# EAGLE library part PINHD-2X6_RECEPTACLE (library dadamachines)
PIN HEADER
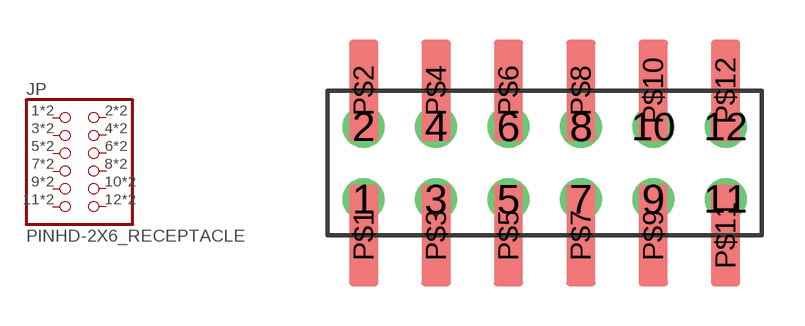
[diagram p24: symbol with the pads of 2X06_RECEPTACLE; footprint 2X06_RECEPTACLE]

Designator prefix JP

## PINHD-2X6_RECEPTACLE  [2X06_RECEPTACLE]
1  1  pas
2  2  pas
3  3  pas
4  4  pas
5  5  pas
6  6  pas
7  7  pas
8  8  pas
9  9  pas
10  10  pas
11  11  pas
12  12  pas
P$1  1  pas
P$2  2  pas
P$3  3  pas
P$4  4  pas
P$5  5  pas
P$6  6  pas
P$7  7  pas
P$8  8  pas
P$9  9  pas
P$10  10  pas
P$11  11  pas
P$12  12  pas

## Footprint 2X06_RECEPTACLE (pad centres in mm)
PIN HEADER
drill 0.965: 1 -6.35,-1.27; 2 -6.35,1.27; 3 -3.81,-1.27; 4 -3.81,1.27; 5 -1.27,-1.27; 6 -1.27,1.27; 7 1.27,-1.27; 8 1.27,1.27; 9 3.81,-1.27; 10 3.81,1.27; 11 6.35,-1.27; 12 6.35,1.27
smd 1.02 x 3.556: P$1 -6.35,-2.54; P$2 -6.35,2.54; P$3 -3.81,-2.54; P$4 -3.81,2.54; P$5 -1.27,-2.54; P$6 -1.27,2.54; P$7 1.27,-2.54; P$8 1.27,2.54; P$9 3.81,-2.54; P$10 3.81,2.54; P$11 6.35,-2.54; P$12 6.35,2.54